# Altium footprint library MKPH.PcbLib: 2 footprints
Each footprint in its own frame and in the unit in brackets; x right, y up, seen from the top. Pads: shape width x height; smd on the part's side, far side on the other; paste and mask are expansions set on the pad; w line width, h text height; cw(c..) or ccw(c..) is an arc to the next point about the centre after c.
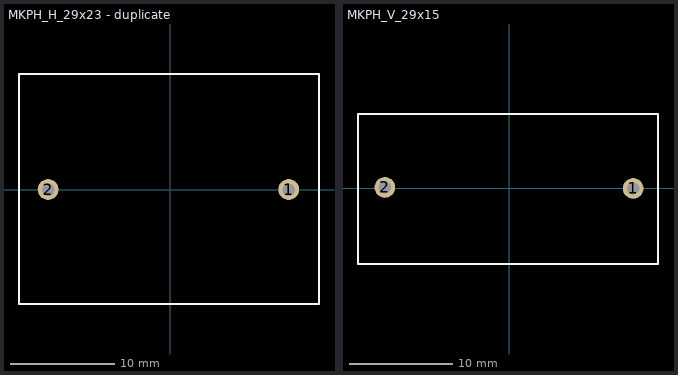
[diagram p0: the footprints below, top view; thin cyan lines are the x and y axes]

## MKPH_H_29x23 - duplicate [mm]
pads (2):
  round 2 hole 1.2: 1(11.4,0) 2(-11.7,0)
Top Overlay:
  lines w0.2: -14.5,-11 14.3,-11 14.3,11.1 -14.5,11.1 -14.5,-11
TopAssy:
  lines w0.2: -14.5,-11 -14.5,11.1 14.3,11.1 14.3,-11 -14.5,-11
  text ".Designator" at -2.6,-0.3 h1.52
3D body: height 18, standoff -3, extent -14.35,-11 14.15,11

## MKPH_V_29x15 [mm]
pads (2):
  round 2 hole 1.2: 1(12,0) 2(-12,0.1)
Top Overlay:
  lines w0.2: -14.6,-7.3 14.4,-7.3 14.4,7.2 -14.6,7.2 -14.6,-7.3
TopAssy:
  lines w0.2: -14.6,-7.3 14.4,-7.3 14.4,7.2 -14.6,7.2 -14.6,-7.3
  text ".Designator" at -2.6,-0.3 h1.52
3D body: height 24.5, standoff -3, extent -14.6,-7.25 14.4,7.25